# Altium footprint library WatcherJet.PcbLib: 36 footprints (part 1 of 3)
Each footprint in its own frame and in the unit in brackets; x right, y up, seen from the top. Pads: shape width x height; smd on the part's side, far side on the other; paste and mask are expansions set on the pad; w line width, h text height; cw(c..) or ccw(c..) is an arc to the next point about the centre after c.
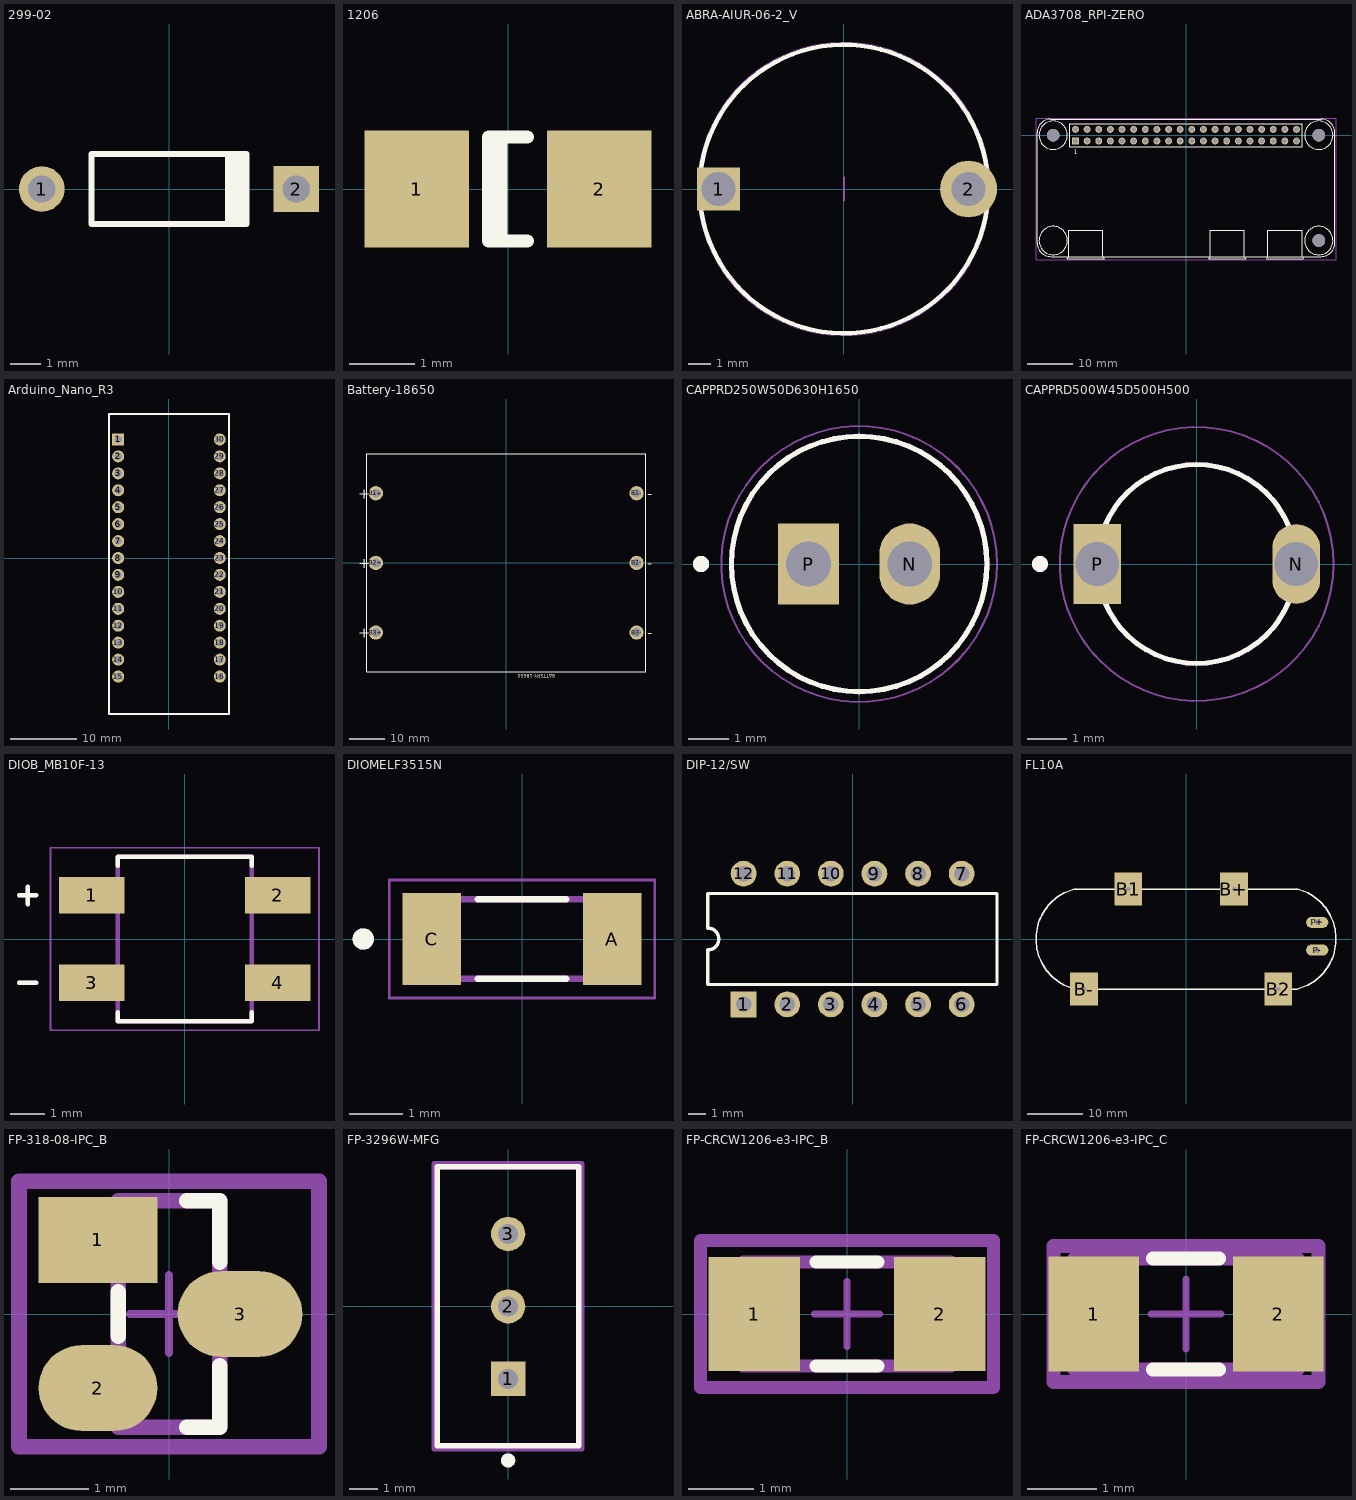
[diagram p0: the footprints below, top view; thin cyan lines are the x and y axes]

## 299-02 [mm] "Diode, Axial; Body 5.1 x 2.3 mm (LxDia. max), Lead Dia. 0.56 mm (max)"
height 2.3
pads (2):
  round 1.5 hole 0.9: 1(-4.19,0)
  rect 1.5x1.5 hole 0.9: 2(4.19,0)
Top Overlay:
  rectangle: 1.85,-1.15 2.65,1.15
  lines w0.2: 2.55,-1.15 -2.55,-1.15 -2.55,1.15 2.55,1.15

## 1206 [mm] "Chip Capacitor; Body 3.2 x 1.6 mm (LxW typ)"
height 1.5
pads (2):
  rect 1.6x1.8 smd: 1(-1.4,0) 2(1.4,0)
Top Overlay:
  lines w0.2: -0.11,-0.8 -0.11,0.8 ; 0.3,-0.8 -0.3,-0.8 -0.3,0.8 0.3,0.8

## ABRA-AIUR-06-2_V [mm] "Through Hole, 2-Leads, Dia 12.7mm"
height 18
pads (2):
  rect 1.9x1.9 hole 1.5: 1(-5.515,0)
  round 2.5 hole 1.5: 2(5.485,0)
Top Overlay:
  circle w0.2: c0,0 r6.35
Mechanical 15:
  circle w0.05: c0,0 r6.45
  lines w0.1: 0,-0.5 0,0.5
3D body: height 18, standoff 0, extent -6.349,-6.349 6.349,6.349

## ADA3708_RPI-ZERO [mm]
pads (44):
  rect 1.508x1.508 hole 1: 1(-24.13,-1.27)
  round 1.508 hole 1: 2(-24.13,1.27) 3(-21.59,-1.27) 4(-21.59,1.27) 5(-19.05,-1.27) 6(-19.05,1.27) 7(-16.51,-1.27) 8(-16.51,1.27) 9(-13.97,-1.27) 10(-13.97,1.27) 11(-11.43,-1.27) 12(-11.43,1.27) 13(-8.89,-1.27) 14(-8.89,1.27) 15(-6.35,-1.27) 16(-6.35,1.27) 17(-3.81,-1.27) 18(-3.81,1.27) 19(-1.27,-1.27) 20(-1.27,1.27) 21(1.27,-1.27) 22(1.27,1.27) 23(3.81,-1.27) 24(3.81,1.27) 25(6.35,-1.27) 26(6.35,1.27) 27(8.89,-1.27) 28(8.89,1.27) 29(11.43,-1.27) 30(11.43,1.27) 31(13.97,-1.27) 32(13.97,1.27) 33(16.51,-1.27) 34(16.51,1.27) 35(19.05,-1.27) 36(19.05,1.27) 37(21.59,-1.27) 38(21.59,1.27) 39(24.13,-1.27) 40(24.13,1.27)
  round 0 all layers, no hole: ""(-29,-23)
  round 2.75 hole 2.75 unplated: ""(-29,0) ""(29,-23) ""(29,0)
Top Overlay:
  circle w0.127: c-29,0 r3.1
  circle w0.127: c29,0 r3.1
  circle w0.127: c29,-23 r3.1
  circle w0.127: c-29,-23 r3.1
  lines w0.127: -32.5,-23.5 ccw(c-29.5,-23.5) -29.5,-26.5 ; -32.5,-23.5 ccw(c-29.5,-23.5) -29.5,-26.5 ; -32.5,-23.5 -32.5,0.5 ; -32.5,-23.5 -32.5,0.5 ; -32.5,0.5 cw(c-29.5,0.5) -29.5,3.5 ; -32.5,0.5 cw(c-29.5,0.5) -29.5,3.5 ; -29.5,-26.5 -25.65,-26.5 ; -29.5,-26.5 29.5,-26.5 ; -29.5,3.5 29.5,3.5 ; -29.5,3.5 29.5,3.5 ; -25.65,-26.5 -18.15,-26.5 ; -25.65,-26.5 -25.65,-20.75 -18.15,-20.75 -18.15,-26.5 ; -25.65,-26.5 -25.9,-27 -17.9,-27 -18.15,-26.5 ; -18.15,-26.5 29.5,-26.5 ; 5.25,-26.5 4.4,-26.5 12.75,-26.5 ; 5.25,-26.5 12.75,-26.5 ; 5.25,-26.5 5.25,-20.75 12.75,-20.75 12.75,-26.5 ; 5.25,-26.5 5,-27 13,-27 12.75,-26.5 ; 17.85,-26.5 17,-26.5 25.35,-26.5 ; 17.85,-26.5 25.35,-26.5 ; 17.85,-26.5 17.85,-20.75 25.35,-20.75 25.35,-26.5 ; 17.85,-26.5 17.6,-27 25.6,-27 25.35,-26.5 ; 29.5,-26.5 ccw(c29.5,-23.5) 32.5,-23.5 ; 29.5,-26.5 ccw(c29.5,-23.5) 32.5,-23.5 ; 29.5,3.5 cw(c29.5,0.5) 32.5,0.5 ; 29.5,3.5 cw(c29.5,0.5) 32.5,0.5 ; 32.5,-23.5 32.5,0.5 ; 32.5,-23.5 32.5,0.5 ; -25.4,-2.54 -25.4,2.54 25.4,2.54 25.4,-2.54 -25.4,-2.54
  text "1" at -24.473,-4.132 h1.02
Mechanical 15:
  lines w0.05: -32.75,-27.25 32.75,-27.25 32.75,3.75 -32.75,3.75 -32.75,-27.25

## Arduino_Nano_R3 [mm] "Arduino Nano R3, 30-Leads, Row Spacing 15.24mm, Pitch 2.54mm"
height 13
pads (30):
  rect 1.8x1.8 hole 1.1: 1(-7.62,17.78)
  round 1.8 hole 1.1: 2(-7.62,15.24) 3(-7.62,12.7) 4(-7.62,10.16) 5(-7.62,7.62) 6(-7.62,5.08) 7(-7.62,2.54) 8(-7.62,0) 9(-7.62,-2.54) 10(-7.62,-5.08) 11(-7.62,-7.62) 12(-7.62,-10.16) 13(-7.62,-12.7) 14(-7.62,-15.24) 15(-7.62,-17.78) 16(7.62,-17.78) 17(7.62,-15.24) 18(7.62,-12.7) 19(7.62,-10.16) 20(7.62,-7.62) 21(7.62,-5.08) 22(7.62,-2.54) 23(7.62,0) 24(7.62,2.54) 25(7.62,5.08) 26(7.62,7.62) 27(7.62,10.16) 28(7.62,12.7) 29(7.62,15.24) 30(7.62,17.78)
Top Overlay:
  lines w0.254: -9,-23.4 9,-23.4 9,21.6 -9,21.6 -9,-23.4
3D body "arduino nano.STEP": height 12.72, standoff -5.88, extent -9,-23.4 9,21.6

## Battery-18650 [mm]
pads (6):
  round 4 hole 2.5: B1+(-36.5,19.5) B1-(36.5,19.5) B2+(-36.5,0) B2-(36.5,0) B3+(-36.5,-19.5) B3-(36.5,-19.5)
Top Overlay:
  lines w0.254: -39,-30.5 39,-30.5 39,30.5 -39,30.5 -39,-30.5
  text "-" at 39.5,-21 h3
  text "-" at 39.5,-1.5 h3
  text "-" at 39.5,18 h3
  text "+" at -41.5,-21 h3
  text "+" at -41.5,-1.5 h3
  text "+" at -41.5,18 h3
  text "BATTERY-18650" at 13.716,-31.115 h0.9

## CAPPRD250W50D630H1650 [mm]
pads (2):
  oval 1.5x2 hole 1.1: N(1.25,0)
  rect 1.5x2 hole 1.1: P(-1.25,0)
Top Overlay:
  circle w0.2: c-3.9,0 r0.1
  circle w0.127: c0,0 r3.15
Mechanical 13:
  circle w0.2: c-3.9,0 r0.1
  circle w0.127: c0,0 r3.15
Mechanical 15:
  circle w0.05: c0,0 r3.4

## CAPPRD500W45D500H500 [mm]
pads (2):
  oval 1.2x2 hole 1.1: N(2.5,0)
  rect 1.2x2 hole 1.1: P(-2.5,0)
Top Overlay:
  circle w0.2: c-3.938,0 r0.1
  lines w0.127: -2.318,-0.937 ccw(c0,0) 2.318,-0.937 ; -2.318,0.937 cw(c0,0) 2.318,0.937
Mechanical 13:
  circle w0.127: c0,0 r2.5
  circle w0.2: c-3.938,0 r0.1
Mechanical 15:
  circle w0.05: c0,0 r3.438
3D body "step_temp.STEP": height 5, standoff -17, extent -2.725,-2.498 2.725,2.498

## DIOB_MB10F-13 [mm]
height 1.8
pads (4):
  rect 1.875x1.05 smd: 1(-2.662,1.25) 2(2.662,1.25) 3(-2.662,-1.25) 4(2.662,-1.25)
Top Overlay:
  lines w0.127: -4.75,-1.25 -4.25,-1.25 ; -4.75,1.25 -4.25,1.25 ; -4.5,1 -4.5,1.5 ; -1.925,-2.095 -1.925,-2.362 1.925,-2.362 1.925,-2.095 ; -1.925,2.095 -1.925,2.362 1.925,2.362 1.925,2.095
Mechanical 13:
  lines w0.127: -4.75,-1.25 -4.25,-1.25 ; -4.75,1.25 -4.25,1.25 ; -4.5,1 -4.5,1.5 ; -1.925,-2.362 -1.925,2.362 1.925,2.362 1.925,-2.362 -1.925,-2.362
Mechanical 15:
  lines w0.05: -3.85,-2.612 -3.85,2.612 3.85,2.612 3.85,-2.612 -3.85,-2.612
3D body "step_temp.STEP": height 1.8, standoff 0, extent -3.35,-2.362 3.35,2.362

## DIOMELF3515N [mm]
pads (2):
  rect 1.11x1.73 smd: A(1.705,0) C(-1.705,0)
Top Overlay:
  circle w0.2: c-3,0 r0.1
  lines w0.127: -0.83,-0.75 0.83,-0.75 ; -0.83,0.75 0.83,0.75
Mechanical 13:
  circle w0.2: c-3,0 r0.1
  lines w0.127: -1.75,-0.75 1.75,-0.75 1.75,0.75 -1.75,0.75 -1.75,-0.75
Mechanical 15:
  lines w0.05: -2.51,-1.115 2.51,-1.115 2.51,1.115 -2.51,1.115 -2.51,-1.115
3D body "step_temp.STEP": height 1.6, standoff 0, extent -1.75,-0.8 1.75,0.8

## DIP-12/SW [mm] "DIP Switch; 12 Leads"
height 5.8
pads (12):
  rect 1.5x1.5 hole 0.9: 1(-6.35,-3.81)
  round 1.5 hole 0.9: 2(-3.81,-3.81) 3(-1.27,-3.81) 4(1.27,-3.81) 5(3.81,-3.81) 6(6.35,-3.81) 7(6.35,3.81) 8(3.81,3.81) 9(1.27,3.81) 10(-1.27,3.81) 11(-3.81,3.81) 12(-6.35,3.81)
Top Overlay:
  lines w0.2: -8.43,-2.65 -8.43,-0.635 ccw(c-8.43,0) -8.43,0.635 -8.43,2.65 8.41,2.65 8.41,-2.65 -8.43,-2.65

## FL10A [mm]
height 7
pads (6):
  rect 5x6 hole 0.762: B1(-10.38,9) B2(16.62,-9) B+(8.62,9) B-(-18.38,-9)
  oval 4x2 hole 0.95: P+(23.622,3) P-(23.622,-2)
Top Overlay:
  lines w0.254: -20,-9 20,-9 ; -20,9 20,9 ; -19.956,-9.022 cw(c-17.7,0) -19.927,9.029 ; 19.927,-9.029 ccw(c17.7,0) 19.956,9.022

## FP-318-08-IPC_B [mm]
pads (3):
  rect 1.524x1.1 smd: 1(-0.91,0.95)
  rrect100% 1.524x1.1 smd: 2(-0.91,-0.95)
  rrect100% 1.6x1.1 smd: 3(0.91,0)
Top Overlay:
  lines w0.2: -0.65,-0.286 -0.65,0.286 ; 0.227,-1.45 0.65,-1.45 0.65,-0.664 ; 0.227,1.45 0.65,1.45 0.65,0.664
Top 3D Body:
  lines w0.2: -0.65,-1.45 -0.65,1.45 0.65,1.45 0.65,-1.45 -0.65,-1.45
Top Courtyard:
  lines w0.2: -1.922,-1.7 -1.922,1.7 1.922,1.7 1.922,-1.7 -1.922,-1.7
Top Assembly:
  lines w0.2: -1.922,-1.7 -1.922,1.7 1.922,1.7 1.922,-1.7 -1.922,-1.7
  text ".Designator" at 0.656,0.823 h1
Top Component Center:
  lines w0.1: -0.5,0 0.5,0 ; 0,-0.5 0,0.5
3D body "IC_ON_Semiconductor_NUD3112LT1G_eec.STEP": height 0.25, standoff 0, extent -1.922,-1.7 1.922,1.7

## FP-3296W-MFG [mm]
height 2.72
pads (3):
  rect 1.2x1.2 hole 0.7: 1(0.005,-2.54)
  round 1.2 hole 0.7: 2(0.005,0) 3(0.005,2.54)
Top Overlay:
  circle w0.25: c0.005,-5.4 r0.125
  lines w0.2: -2.48,-4.89 2.48,-4.89 2.48,4.89 -2.48,4.89 -2.48,-4.89
Top 3D Body:
  lines w0.2: -2.48,-4.89 2.48,-4.89 2.48,4.89 -2.48,4.89 -2.48,-4.89
Top Courtyard:
  lines w0.2: -2.58,-4.99 2.58,-4.99 2.58,4.99 -2.58,4.99 -2.58,-4.99
Top Assembly:
  lines w0.2: -2.58,-4.99 2.58,-4.99 2.58,4.99 -2.58,4.99 -2.58,-4.99
  text ".Designator" at 0,-0.001 h1
Top Component Center:
  lines w0.1: -0.5,0 0.5,0 ; 0,-0.5 0,0.5
3D body "Res_Bourns_3296W-1-501RLF_eec.STEP": height 0.25, standoff 0, extent -2.58,-4.99 2.58,4.99

## FP-CRCW1206-e3-IPC_B [mm]
height 2.72
pads (2):
  rect 1.4x1.758 smd paste+0 mask+0: 1(-1.426,0) 2(1.426,0)
Top Overlay:
  lines w0.2: -0.473,-0.8 0.473,-0.8 ; -0.473,0.8 0.473,0.8
Top 3D Body:
  lines w0.2: -1.6,-0.8 -1.6,0.8 1.6,0.8 1.6,-0.8 -1.6,-0.8
Top Courtyard:
  lines w0.2: -2.254,-1.129 -2.254,1.129 2.254,1.129 2.254,-1.129 -2.254,-1.129
Top Assembly:
  lines w0.2: -2.254,-1.129 -2.254,1.129 2.254,1.129 2.254,-1.129 -2.254,-1.129
  text ".Designator" at 0,0.188 h1
Top Component Center:
  lines w0.1: -0.5,0 0.5,0 ; 0,-0.5 0,0.5
3D body "Res_Vishay_CRCW1206619RFKEB_eec.STEP": height 0.25, standoff 0, extent -2.254,-1.129 2.254,1.129

## FP-CRCW1206-e3-IPC_C [mm]
height 10.013
pads (2):
  rect 1.3x1.658 smd: 1(-1.326,0) 2(1.326,0)
Top Overlay:
  lines w0.2: -0.473,-0.8 0.473,-0.8 ; -0.473,0.8 0.473,0.8
Top 3D Body:
  lines w0.2: -1.6,-0.8 -1.6,0.8 1.6,0.8 1.6,-0.8 -1.6,-0.8
Top Courtyard:
  lines w0.2: -1.904,-0.975 -1.904,0.975 1.904,0.975 1.904,-0.975 -1.904,-0.975
Top Assembly:
  lines w0.2: -1.904,-0.975 -1.904,0.975 1.904,0.975 1.904,-0.975 -1.904,-0.975
  text ".Designator" at 0,0.188 h1
Top Component Center:
  lines w0.1: -0.5,0 0.5,0 ; 0,-0.5 0,0.5
3D body "Res_Vishay_CRCW1206619RFKEB_eec.STEP": height 0.25, standoff 0, extent -1.904,-0.975 1.904,0.975